# Altium integrated library TI_Logic_Specialty_Logic.IntLib: 2504 symbols (part 32 of 81)
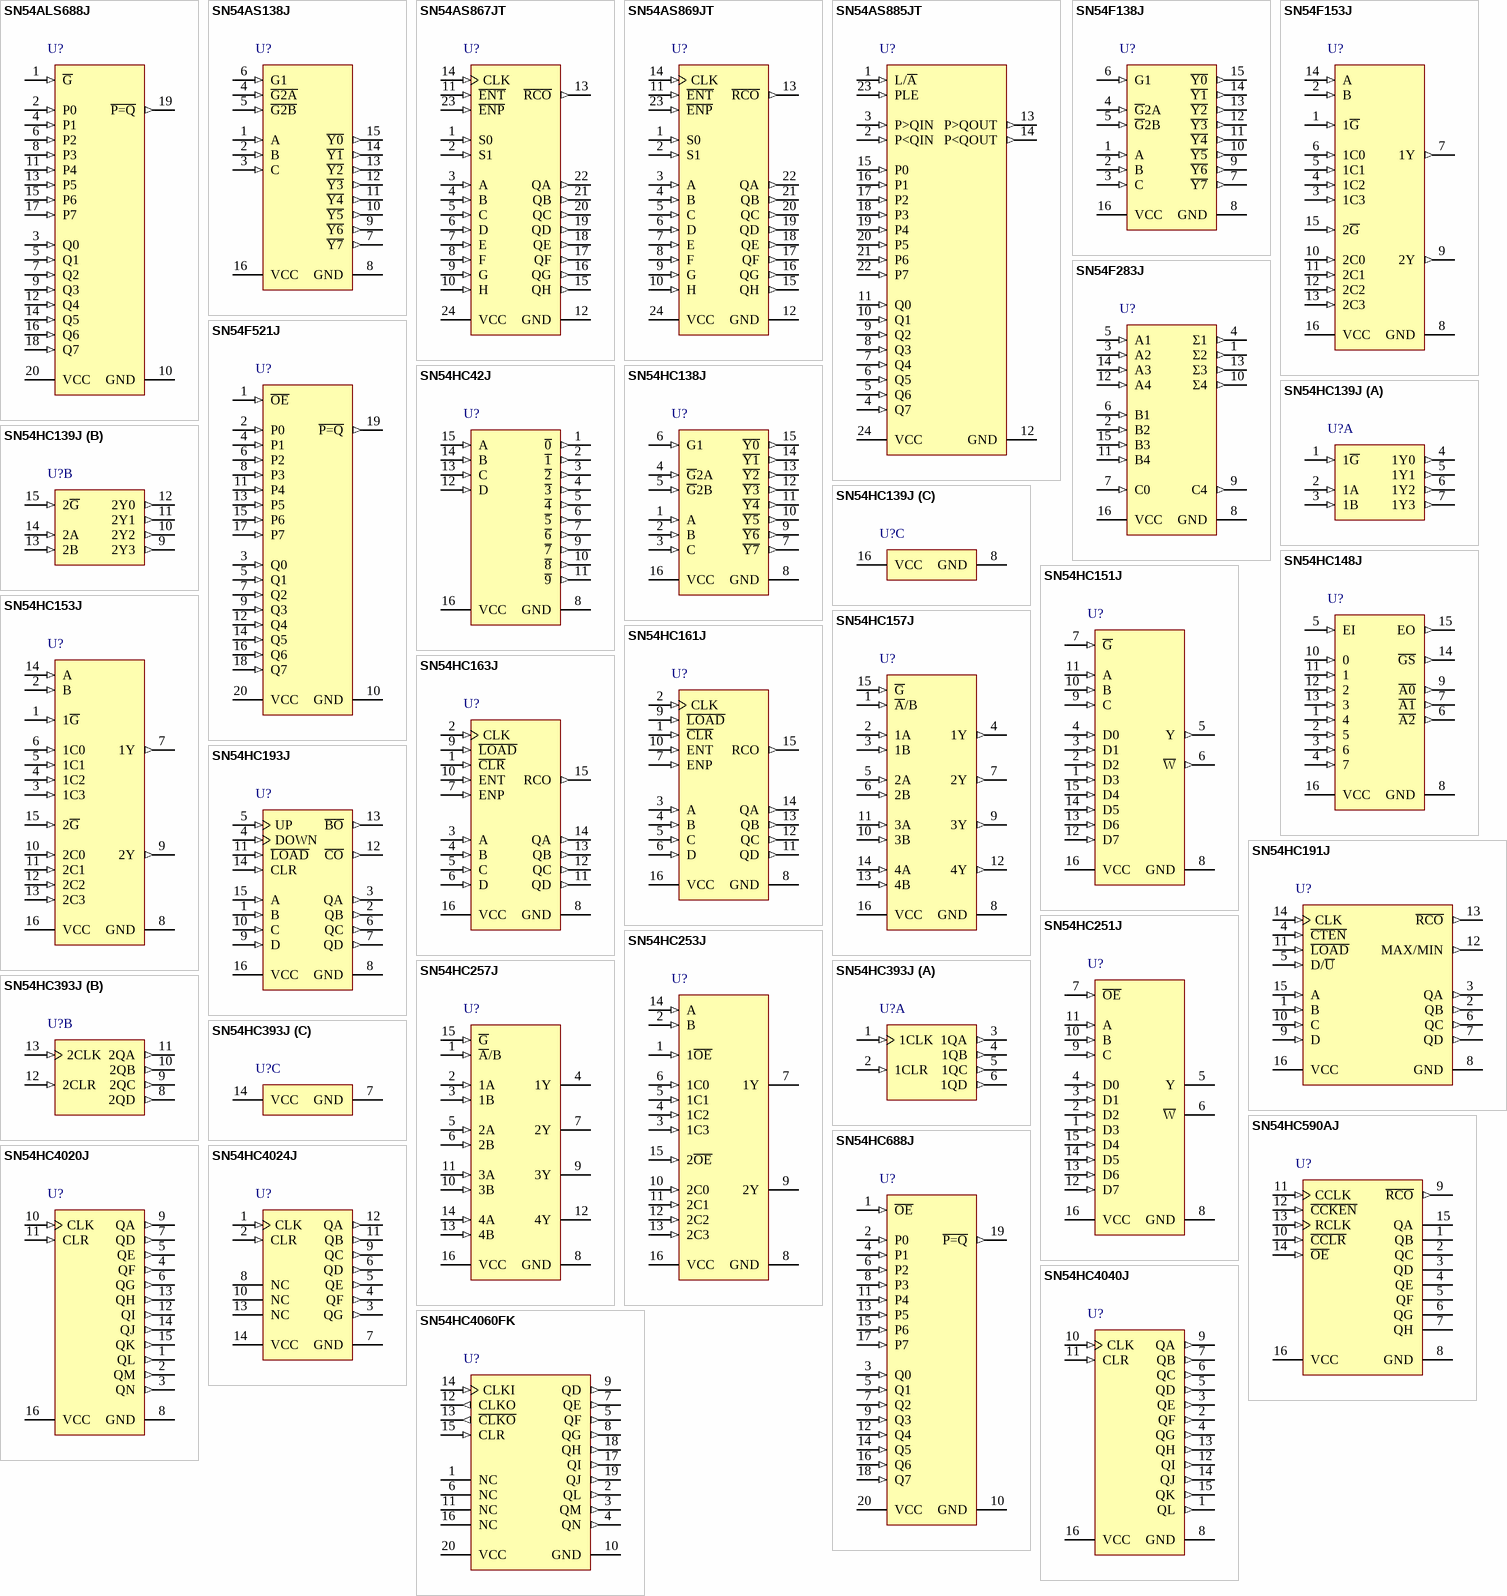
[diagram p135: symbols SN54ALS688J to SN54HC4060FK]

## SN54HC253J
designator U?
Dual 4-Line To 1-Line Data Selectors/Multiplexers With 3-State Outputs, J0016A, TUBE; Generic Part Number: SN54HC253; Manufacturer: Texas Instruments; PartNumber: SN54HC253J; VCC(Min)(V): 2; VCC(Max)(V): 6; Rating: Military; Technology Family: HC; Schmitt Trigger: No; DatasheetVersion: SCLS133E; PackageReference: J0016A; Operating Temperature Range(C): -55 to 125; ComponentLink1Description: Manufacturer URL; ComponentLink1URL: http://www.ti.com/; ComponentLink2Description: Datasheet; ComponentLink2URL: http://www.ti.com/lit/ds/symlink/sn54hc253.pdf; ComponentLink3Description: Package Specification; ComponentLink3URL: http://www.ti.com/lit/ml/mcer002d/mcer002d.pdf
footprint J0016A (DIP, 16-Leads, Body 21.35x7.2mm, Pitch 2.54mm)
pins: 1 1~{OE} (in), 2 B (in), 3 1C3 (in), 4 1C2 (in), 5 1C1 (in), 6 1C0 (in), 7 1Y (hiz), 8 GND (power), 9 2Y (hiz), 10 2C0 (in), 11 2C1 (in), 12 2C2 (in), 13 2C3 (in), 14 A (in), 15 2~{OE} (in), 16 VCC (power)

## SN54HC257J
designator U?
Quad 2-Line To 1-Line Data Selectors/Multiplexers With 3-State Outputs, J0016A, TUBE; Generic Part Number: SN54HC257; Manufacturer: Texas Instruments; PartNumber: SN54HC257J; VCC(Min)(V): 2; VCC(Max)(V): 6; Rating: Military; Technology Family: HC; Schmitt Trigger: No; DatasheetVersion: SCLS224B; PackageReference: J0016A; Operating Temperature Range(C): -55 to 125; ComponentLink1Description: Manufacturer URL; ComponentLink1URL: http://www.ti.com/; ComponentLink2Description: Datasheet; ComponentLink2URL: http://www.ti.com/lit/ds/symlink/sn54hc257.pdf; ComponentLink3Description: Package Specification; ComponentLink3URL: http://www.ti.com/lit/ml/mcer002d/mcer002d.pdf
footprint J0016A (DIP, 16-Leads, Body 21.35x7.2mm, Pitch 2.54mm)
pins: 1 ~{A}/B (in), 2 1A (in), 3 1B (in), 4 1Y (hiz), 5 2A (in), 6 2B (in), 7 2Y (hiz), 8 GND (power), 9 3Y (hiz), 10 3B (in), 11 3A (in), 12 4Y (hiz), 13 4B (in), 14 4A (in), 15 ~{G} (in), 16 VCC (power)

## SN54HC393J
designator U?
Dual 4-Bit Binary Counters, J0014A, TUBE; Generic Part Number: SN54HC393; Manufacturer: Texas Instruments; PartNumber: SN54HC393J; VCC(Min)(V): 2; VCC(Max)(V): 6; Inputs: 1; ICC @ Nom Voltage(Max)(mA): 0.08; Bits(#): 4; F @ Nom Voltage(Max)(Mhz): 28; Rating: Military; Technology Family: HC; Output Drive (IOL/IOH)(Max)(mA): 5.2/-5.2; tpd @ Nom Voltage(Max)(ns): 62; DatasheetVersion: SCLS143D; PackageReference: J0014A; Function: Counter; Operating Temperature Range(C): -55 to 125; Type: Binary; ComponentLink1Description: Manufacturer URL; ComponentLink1URL: http://www.ti.com/; ComponentLink2Description: Datasheet; ComponentLink2URL: http://www.ti.com/lit/ds/symlink/sn54hc393.pdf; ComponentLink3Description: Package Specification; ComponentLink3URL: http://www.ti.com/lit/ml/mcer002d/mcer002d.pdf
footprint J0014A (DIP, 14-Leads, Body 19.95x7.2mm, Pitch 2.54mm)
part A pins: 1 1CLK (in), 2 1CLR (in), 3 1QA (out), 4 1QB (out), 5 1QC (out), 6 1QD (out)
part B pins: 8 2QD (out), 9 2QC (out), 10 2QB (out), 11 2QA (out), 12 2CLR (in), 13 2CLK (in)
part C pins: 7 GND (power), 14 VCC (power)

## SN54HC590AJ
designator U?
8-Bit Binary Counters With 3-State Output Registers, J0016A, TUBE; Generic Part Number: SN54HC590A; Manufacturer: Texas Instruments; PartNumber: SN54HC590AJ; VCC(Min)(V): 2; VCC(Max)(V): 6; Inputs: 1; ICC @ Nom Voltage(Max)(mA): 0.08; Bits(#): 8; F @ Nom Voltage(Max)(Mhz): 28; Rating: Military; Technology Family: HC; Output Drive (IOL/IOH)(Max)(mA): 7.8/-7.8; tpd @ Nom Voltage(Max)(ns): 38; DatasheetVersion: SCLS039F; PackageReference: J0016A; Function: Counter; Operating Temperature Range(C): -55 to 125; Type: Binary; ComponentLink1Description: Manufacturer URL; ComponentLink1URL: http://www.ti.com/; ComponentLink2Description: Datasheet; ComponentLink2URL: http://www.ti.com/lit/ds/symlink/sn54hc590a.pdf; ComponentLink3Description: Package Specification; ComponentLink3URL: http://www.ti.com/lit/ml/mcer002d/mcer002d.pdf
footprint J0016A (DIP, 16-Leads, Body 21.35x7.2mm, Pitch 2.54mm)
pins: 1 QB (hiz), 2 QC (hiz), 3 QD (hiz), 4 QE (hiz), 5 QF (hiz), 6 QG (hiz), 7 QH (hiz), 8 GND (power), 9 ~{RCO} (out), 10 ~{CCLR} (in), 11 CCLK (in), 12 ~{CCKEN} (in), 13 RCLK (in), 14 ~{OE} (in), 15 QA (hiz), 16 VCC (power)

## SN54HC688J
designator U?
8-Bit Identity Comparators, J0020A, TUBE; Generic Part Number: SN54HC688; Manufacturer: Texas Instruments; PartNumber: SN54HC688J; VCC(Min)(V): 2; VCC(Max)(V): 6; Output Type: CMOS; ICC @ Nom Voltage(Max)(mA): 0.08; Bits(#): 8; Rating: Military; Technology Family: HC; Output Drive (IOL/IOH)(Max)(mA): 5.2/-5.2; tpd @ Nom Voltage(Max)(ns): 45; DatasheetVersion: SCLS010D; PackageReference: J0020A; Input Type: CMOS; Operating Temperature Range(C): -55 to 125; ComponentLink1Description: Manufacturer URL; ComponentLink1URL: http://www.ti.com/; ComponentLink2Description: Datasheet; ComponentLink2URL: http://www.ti.com/lit/ds/symlink/sn54hc688.pdf
footprint J0020A (DIP, 20-Leads, Body 26.9x7.2mm, Pitch 2.54mm)
pins: 1 ~{OE} (in), 2 P0 (in), 3 Q0 (in), 4 P1 (in), 5 Q1 (in), 6 P2 (in), 7 Q2 (in), 8 P3 (in), 9 Q3 (in), 10 GND (power), 11 P4 (in), 12 Q4 (in), 13 P5 (in), 14 Q5 (in), 15 P6 (in), 16 Q6 (in), 17 P7 (in), 18 Q7 (in), 19 ~{P=Q} (out), 20 VCC (power)

## SN54HC4020J
designator U?
Asynchronous 14-Bit Binary Counters, J0016A, TUBE; Generic Part Number: SN54HC4020; Manufacturer: Texas Instruments; PartNumber: SN54HC4020J; VCC(Min)(V): 2; VCC(Max)(V): 6; Inputs: 1; ICC @ Nom Voltage(Max)(mA): 0.08; Bits(#): 14; F @ Nom Voltage(Max)(Mhz): 28; Rating: Military; Technology Family: HC; Output Drive (IOL/IOH)(Max)(mA): 5.2/-5.2; tpd @ Nom Voltage(Max)(ns): 32; DatasheetVersion: SCLS158E; PackageReference: J0016A; Function: Counter; Operating Temperature Range(C): -55 to 125; Type: Binary; ComponentLink1Description: Manufacturer URL; ComponentLink1URL: http://www.ti.com/; ComponentLink2Description: Datasheet; ComponentLink2URL: http://www.ti.com/lit/ds/symlink/sn54hc4020.pdf; ComponentLink3Description: Package Specification; ComponentLink3URL: http://www.ti.com/lit/ml/mcer002d/mcer002d.pdf
footprint J0016A (DIP, 16-Leads, Body 21.35x7.2mm, Pitch 2.54mm)
pins: 1 QL (out), 2 QM (out), 3 QN (out), 4 QF (out), 5 QE (out), 6 QG (out), 7 QD (out), 8 GND (power), 9 QA (out), 10 CLK (in), 11 CLR (in), 12 QI (out), 13 QH (out), 14 QJ (out), 15 QK (out), 16 VCC (power)

## SN54HC4024J
designator U?
Asynchronous 7-Bit Binary Counters, J0014A, TUBE; Generic Part Number: SN54HC4024; Manufacturer: Texas Instruments; PartNumber: SN54HC4024J; Rating: Military; Technology Family: HC; DatasheetVersion: SCLS159; PackageReference: J0014A; Operating Temperature Range(C): -55 to 125; ComponentLink1Description: Manufacturer URL; ComponentLink1URL: http://www.ti.com/; ComponentLink2Description: Datasheet; ComponentLink2URL: http://www.ti.com/lit/ds/symlink/sn54hc4024.pdf; ComponentLink3Description: Package Specification; ComponentLink3URL: http://www.ti.com/lit/ml/mcer002d/mcer002d.pdf
footprint J0014A (DIP, 14-Leads, Body 19.95x7.2mm, Pitch 2.54mm)
pins: 1 CLK (in), 2 CLR (in), 3 QG (out), 4 QF (out), 5 QE (out), 6 QD (out), 7 GND (power), 8 NC, 9 QC (out), 10 NC, 11 QB (out), 12 QA (out), 13 NC, 14 VCC (power)

## SN54HC4040J
designator U?
Asynchronous 12-Bit Binary Counters, J0016A, TUBE; Generic Part Number: SN54HC4040; Manufacturer: Texas Instruments; PartNumber: SN54HC4040J; VCC(Min)(V): 2; VCC(Max)(V): 6; Inputs: 1; ICC @ Nom Voltage(Max)(mA): 0.08; Bits(#): 12; F @ Nom Voltage(Max)(Mhz): 28; Rating: Military; Technology Family: HC; Output Drive (IOL/IOH)(Max)(mA): 5.2/-5.2; tpd @ Nom Voltage(Max)(ns): 32; DatasheetVersion: SCLS160D; PackageReference: J0016A; Function: Counter; Operating Temperature Range(C): -55 to 125; Type: Binary; ComponentLink1Description: Manufacturer URL; ComponentLink1URL: http://www.ti.com/; ComponentLink2Description: Datasheet; ComponentLink2URL: http://www.ti.com/lit/ds/symlink/sn54hc4040.pdf; ComponentLink3Description: Package Specification; ComponentLink3URL: http://www.ti.com/lit/ml/mcer002d/mcer002d.pdf
footprint J0016A (DIP, 16-Leads, Body 21.35x7.2mm, Pitch 2.54mm)
pins: 1 QL (out), 2 QF (out), 3 QE (out), 4 QG (out), 5 QD (out), 6 QC (out), 7 QB (out), 8 GND (power), 9 QA (out), 10 CLK (in), 11 CLR (in), 12 QI (out), 13 QH (out), 14 QJ (out), 15 QK (out), 16 VCC (power)

## SN54HC4060FK
designator U?
Asynchronous 14-Stage Binary Counters And Oscillators, FK0020A, TUBE; Generic Part Number: SN54HC4060; Manufacturer: Texas Instruments; PartNumber: SN54HC4060FK; VCC(Min)(V): 2; VCC(Max)(V): 6; Inputs: 1; ICC @ Nom Voltage(Max)(mA): 0.08; Bits(#): 14; F @ Nom Voltage(Max)(Mhz): 28; Rating: Military; Technology Family: HC; Output Drive (IOL/IOH)(Max)(mA): 5.2/-5.2; tpd @ Nom Voltage(Max)(ns): 105; DatasheetVersion: SCLS161D; PackageReference: FK0020A; Function: Counter; Operating Temperature Range(C): -55 to 125; Type: Binary; Code_JEDEC: MS-004; ComponentLink1Description: Manufacturer URL; ComponentLink1URL: http://www.ti.com/; ComponentLink2Description: Datasheet; ComponentLink2URL: http://www.ti.com/lit/ds/symlink/sn54hc4060.pdf; ComponentLink3Description: Package Specification; ComponentLink3URL: http://www.ti.com/lit/ml/mlcc006d/mlcc006d.pdf
footprint FK0020A_N (LCC, 20-Leads, Body 8.9x8.9mm, Pitch 1.27mm, IPC Medium Density)
footprint FK0020A_M (LCC, 20-Leads, Body 8.9x8.9mm, Pitch 1.27mm, IPC Low Density)
footprint FK0020A_L (LCC, 20-Leads, Body 8.9x8.9mm, Pitch 1.27mm, IPC High Density)
pins: 1 NC, 2 QL (out), 3 QM (out), 4 QN (out), 5 QF (out), 6 NC, 7 QE (out), 8 QG (out), 9 QD (out), 10 GND (power), 11 NC, 12 CLKO (out), 13 ~{CLKO} (out), 14 CLKI (in), 15 CLR (in), 16 NC, 17 QI (out), 18 QH (out), 19 QJ (out), 20 VCC (power)

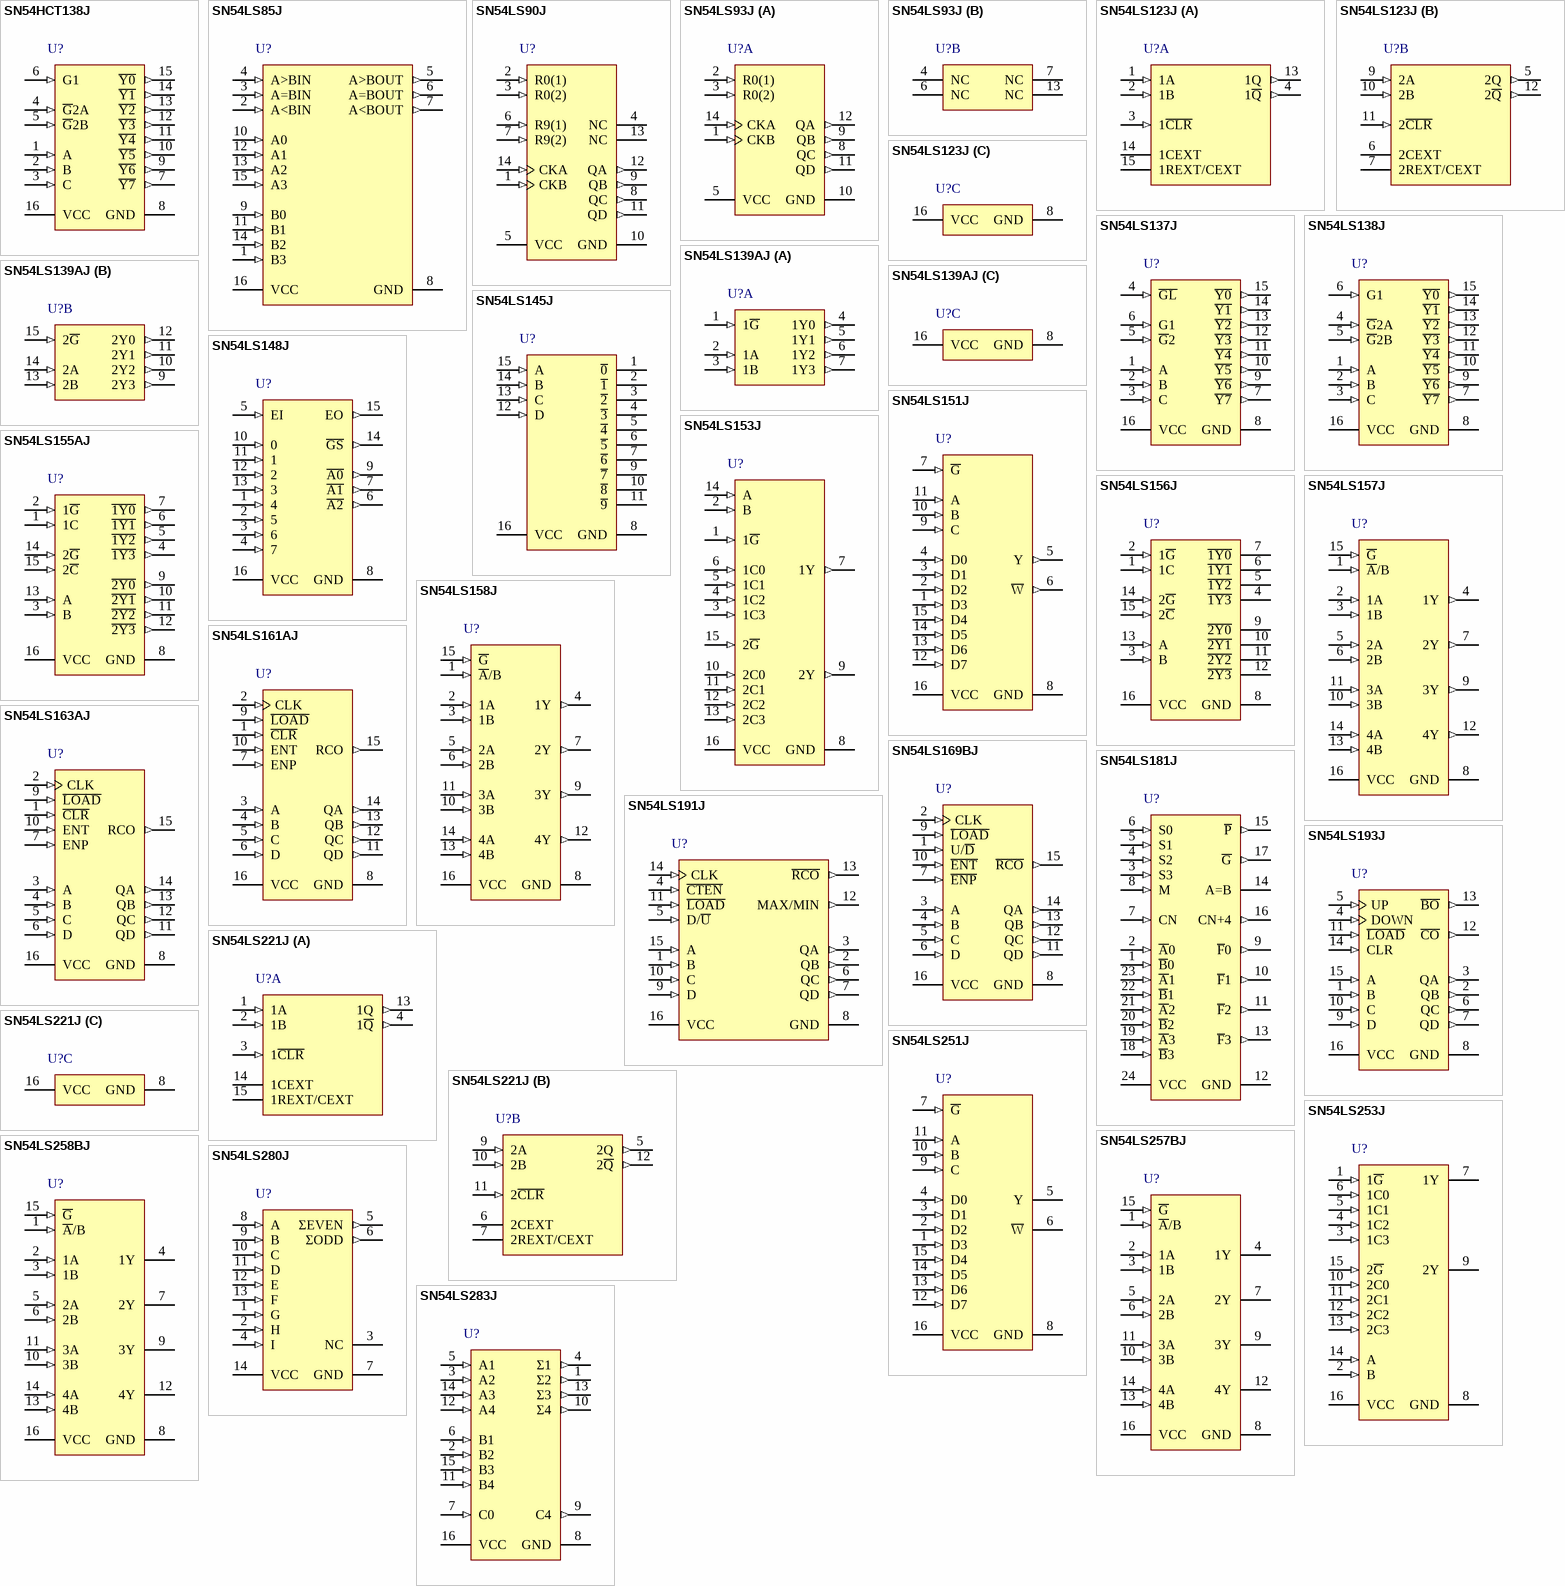
[diagram p44: symbols SN54HCT138J to SN54LS283J]

## SN54HCT138J
designator U?
3-Line To 8-Line Decoders/Demultiplexers, J0016A, TUBE; Generic Part Number: SN54HCT138; Manufacturer: Texas Instruments; PartNumber: SN54HCT138J; VCC(Min)(V): 4.5; VCC(Max)(V): 5.5; Rating: Military; Technology Family: HCT; Schmitt Trigger: No; DatasheetVersion: SCLS171E; PackageReference: J0016A; Operating Temperature Range(C): -55 to 125; ComponentLink1Description: Manufacturer URL; ComponentLink1URL: http://www.ti.com/; ComponentLink2Description: Datasheet; ComponentLink2URL: http://www.ti.com/lit/ds/symlink/sn54hct138.pdf; ComponentLink3Description: Package Specification; ComponentLink3URL: http://www.ti.com/lit/ml/mcer002d/mcer002d.pdf
footprint J0016A (DIP, 16-Leads, Body 21.35x7.2mm, Pitch 2.54mm)
pins: 1 A (in), 2 B (in), 3 C (in), 4 ~{G}2A (in), 5 ~{G}2B (in), 6 G1 (in), 7 ~{Y7} (out), 8 GND (power), 9 ~{Y6} (out), 10 ~{Y5} (out), 11 ~{Y4} (out), 12 ~{Y3} (out), 13 ~{Y2} (out), 14 ~{Y1} (out), 15 ~{Y0} (out), 16 VCC (power)

## SN54LS85J
designator U?
4-Bit Magnitude Comparators, J0016A, TUBE; Generic Part Number: SN54LS85; Manufacturer: Texas Instruments; PartNumber: SN54LS85J; VCC(Min)(V): 4.75; VCC(Max)(V): 5.25; Output Type: TTL; ICC @ Nom Voltage(Max)(mA): 88; Bits(#): 4; Rating: Military; Technology Family: LS; Output Drive (IOL/IOH)(Max)(mA): 16/-0.4; tpd @ Nom Voltage(Max)(ns): 35; DatasheetVersion: SDLS123; PackageReference: J0016A; Input Type: TTL; Operating Temperature Range(C): -55 to 125; ComponentLink1Description: Manufacturer URL; ComponentLink1URL: http://www.ti.com/; ComponentLink2Description: Datasheet; ComponentLink2URL: http://www.ti.com/lit/ds/symlink/sn54ls85.pdf
footprint J0016A (DIP, 16-Leads, Body 21.35x7.2mm, Pitch 2.54mm)
pins: 1 B3 (in), 2 A<BIN (in), 3 A=BIN (in), 4 A>BIN (in), 5 A>BOUT (out), 6 A=BOUT (out), 7 A<BOUT (out), 8 GND (power), 9 B0 (in), 10 A0 (in), 11 B1 (in), 12 A1 (in), 13 A2 (in), 14 B2 (in), 15 A3 (in), 16 VCC (power)

## SN54LS90J
designator U?
Decade Counter, J0014A, TUBE; Generic Part Number: SN54LS90; Manufacturer: Texas Instruments; PartNumber: SN54LS90J; VCC(Min)(V): 4.75; VCC(Max)(V): 5.25; Inputs: 1; ICC @ Nom Voltage(Max)(mA): 15; Bits(#): 4; F @ Nom Voltage(Max)(Mhz): 35; Rating: Military; Technology Family: LS; Output Drive (IOL/IOH)(Max)(mA): 8/-0.4; tpd @ Nom Voltage(Max)(ns): 50; DatasheetVersion: SDLS940A; PackageReference: J0014A; Function: Counter; Operating Temperature Range(C): -55 to 125; Type: Decade; ComponentLink1Description: Manufacturer URL; ComponentLink1URL: http://www.ti.com/; ComponentLink2Description: Datasheet; ComponentLink2URL: http://www.ti.com/lit/ds/symlink/sn54ls90.pdf; ComponentLink3Description: Package Specification; ComponentLink3URL: http://www.ti.com/lit/ml/mcer002d/mcer002d.pdf
footprint J0014A (DIP, 14-Leads, Body 19.95x7.2mm, Pitch 2.54mm)
pins: 1 CKB (in), 2 R0(1) (in), 3 R0(2) (in), 4 NC, 5 VCC (power), 6 R9(1) (in), 7 R9(2) (in), 8 QC (out), 9 QB (out), 10 GND (power), 11 QD (out), 12 QA (out), 13 NC, 14 CKA (in)

## SN54LS93J
designator U?
4-Bit Binary Counter, J0014A, TUBE; Generic Part Number: SN54LS93; Manufacturer: Texas Instruments; PartNumber: SN54LS93J; VCC(Min)(V): 4.75; VCC(Max)(V): 5.25; Inputs: 1; ICC @ Nom Voltage(Max)(mA): 15; Bits(#): 4; F @ Nom Voltage(Max)(Mhz): 35; Rating: Military; Technology Family: LS; Output Drive (IOL/IOH)(Max)(mA): 8/-0.4; tpd @ Nom Voltage(Max)(ns): 70; DatasheetVersion: SDLS940A; PackageReference: J0014A; Function: Counter; Operating Temperature Range(C): -55 to 125; Type: Binary; ComponentLink1Description: Manufacturer URL; ComponentLink1URL: http://www.ti.com/; ComponentLink2Description: Datasheet; ComponentLink2URL: http://www.ti.com/lit/ds/symlink/sn54ls93.pdf; ComponentLink3Description: Package Specification; ComponentLink3URL: http://www.ti.com/lit/ml/mcer002d/mcer002d.pdf
footprint J0014A (DIP, 14-Leads, Body 19.95x7.2mm, Pitch 2.54mm)
part A pins: 1 CKB (in), 2 R0(1) (in), 3 R0(2) (in), 5 VCC (power), 8 QC (out), 9 QB (out), 10 GND (power), 11 QD (out), 12 QA (out), 14 CKA (in)
part B pins: 4 NC, 6 NC, 7 NC, 13 NC

## SN54LS123J
designator U?
Retriggerable Monostable Multivibrators, J0016A, TUBE; Generic Part Number: SN54LS123; Manufacturer: Texas Instruments; PartNumber: SN54LS123J; VCC(Min)(V): 4.75; VCC(Max)(V): 5.25; Output Type: TTL; ICC @ Nom Voltage(Max)(mA): 20; Bits(#): 2; Rating: Military; Technology Family: LS; Output Drive (IOL/IOH)(Max)(mA): 8/-0.4; tpd @ Nom Voltage(Max)(ns): 56; DatasheetVersion: SDLS043; PackageReference: J0016A; Input Type: TTL; Operating Temperature Range(C): -55 to 125; ComponentLink1Description: Manufacturer URL; ComponentLink1URL: http://www.ti.com/; ComponentLink2Description: Datasheet; ComponentLink2URL: http://www.ti.com/lit/ds/symlink/sn54ls123.pdf; ComponentLink3Description: Package Specification; ComponentLink3URL: http://www.ti.com/lit/ml/mcer002d/mcer002d.pdf
footprint J0016A (DIP, 16-Leads, Body 21.35x7.2mm, Pitch 2.54mm)
part A pins: 1 1A (in), 2 1B (in), 3 1~{CLR} (in), 4 1~{Q} (out), 13 1Q (out), 14 1CEXT, 15 1REXT/CEXT
part B pins: 5 2Q (out), 6 2CEXT, 7 2REXT/CEXT, 9 2A (in), 10 2B (in), 11 2~{CLR} (in), 12 2~{Q} (out)
part C pins: 8 GND (power), 16 VCC (power)

## SN54LS137J
designator U?
3-Line To 8-Line Decoders/Demultiplexers With Address Latches, J0016A, TUBE; Generic Part Number: SN54LS137; Manufacturer: Texas Instruments; PartNumber: SN54LS137J; VCC(Min)(V): 4.5; VCC(Max)(V): 5.5; Rating: Military; Technology Family: LS; Schmitt Trigger: No; DatasheetVersion: SDLS132; PackageReference: J0016A; Operating Temperature Range(C): -55 to 125; ComponentLink1Description: Manufacturer URL; ComponentLink1URL: http://www.ti.com/; ComponentLink2Description: Datasheet; ComponentLink2URL: http://www.ti.com/lit/ds/symlink/sn54ls137.pdf; ComponentLink3Description: Package Specification; ComponentLink3URL: http://www.ti.com/lit/ml/mcer002d/mcer002d.pdf
footprint J0016A (DIP, 16-Leads, Body 21.35x7.2mm, Pitch 2.54mm)
pins: 1 A (in), 2 B (in), 3 C (in), 4 ~{GL} (in), 5 ~{G}2 (in), 6 G1 (in), 7 ~{Y7} (out), 8 GND (power), 9 ~{Y6} (out), 10 ~{Y5} (out), 11 ~{Y4} (out), 12 ~{Y3} (out), 13 ~{Y2} (out), 14 ~{Y1} (out), 15 ~{Y0} (out), 16 VCC (power)

## SN54LS138J
designator U?
3-Line To 8-Line Decoders/Demultiplexers, J0016A, TUBE; Generic Part Number: SN54LS138; Manufacturer: Texas Instruments; PartNumber: SN54LS138J; VCC(Min)(V): 4.5; VCC(Max)(V): 5.5; Rating: Military; Technology Family: LS; Schmitt Trigger: No; DatasheetVersion: SDLS014; PackageReference: J0016A; Operating Temperature Range(C): -55 to 125; ComponentLink1Description: Manufacturer URL; ComponentLink1URL: http://www.ti.com/; ComponentLink2Description: Datasheet; ComponentLink2URL: http://www.ti.com/lit/ds/symlink/sn54ls138.pdf; ComponentLink3Description: Package Specification; ComponentLink3URL: http://www.ti.com/lit/ml/mcer002d/mcer002d.pdf
footprint J0016A (DIP, 16-Leads, Body 21.35x7.2mm, Pitch 2.54mm)
pins: 1 A (in), 2 B (in), 3 C (in), 4 ~{G}2A (in), 5 ~{G}2B (in), 6 G1 (in), 7 ~{Y7} (out), 8 GND (power), 9 ~{Y6} (out), 10 ~{Y5} (out), 11 ~{Y4} (out), 12 ~{Y3} (out), 13 ~{Y2} (out), 14 ~{Y1} (out), 15 ~{Y0} (out), 16 VCC (power)

## SN54LS139AJ
designator U?
Dual 2-Line To 4-Line Decoders/Demultiplexers, J0016A, TUBE; Generic Part Number: SN54LS139A; Manufacturer: Texas Instruments; PartNumber: SN54LS139AJ; VCC(Min)(V): 4.5; VCC(Max)(V): 5.5; Rating: Military; Technology Family: LS; Schmitt Trigger: No; DatasheetVersion: SDLS013A; PackageReference: J0016A; Operating Temperature Range(C): -55 to 125; ComponentLink1Description: Manufacturer URL; ComponentLink1URL: http://www.ti.com/; ComponentLink2Description: Datasheet; ComponentLink2URL: http://www.ti.com/lit/ds/symlink/sn54ls139a.pdf; ComponentLink3Description: Package Specification; ComponentLink3URL: http://www.ti.com/lit/ml/mcer002d/mcer002d.pdf
footprint J0016A (DIP, 16-Leads, Body 21.35x7.2mm, Pitch 2.54mm)
part A pins: 1 1~{G} (in), 2 1A (in), 3 1B (in), 4 1Y0 (out), 5 1Y1 (out), 6 1Y2 (out), 7 1Y3 (out)
part B pins: 9 2Y3 (out), 10 2Y2 (out), 11 2Y1 (out), 12 2Y0 (out), 13 2B (in), 14 2A (in), 15 2~{G} (in)
part C pins: 8 GND (power), 16 VCC (power)

## SN54LS145J
designator U?
BCD-to-Decimal Decoders/Drivers, J0016A, TUBE; Generic Part Number: SN54LS145; Manufacturer: Texas Instruments; PartNumber: SN54LS145J; VCC(Min)(V): 4.5; VCC(Max)(V): 5.5; Rating: Military; Technology Family: LS; Schmitt Trigger: No; DatasheetVersion: SDLS051; PackageReference: J0016A; Operating Temperature Range(C): -55 to 125; ComponentLink1Description: Manufacturer URL; ComponentLink1URL: http://www.ti.com/; ComponentLink2Description: Datasheet; ComponentLink2URL: http://www.ti.com/lit/ds/symlink/sn54ls145.pdf; ComponentLink3Description: Package Specification; ComponentLink3URL: http://www.ti.com/lit/ml/mcer002d/mcer002d.pdf
footprint J0016A (DIP, 16-Leads, Body 21.35x7.2mm, Pitch 2.54mm)
pins: 1 ~{0} (oc), 2 ~{1} (oc), 3 ~{2} (oc), 4 ~{3} (oc), 5 ~{4} (oc), 6 ~{5} (oc), 7 ~{6} (oc), 8 GND (power), 9 ~{7} (oc), 10 ~{8} (oc), 11 ~{9} (oc), 12 D (in), 13 C (in), 14 B (in), 15 A (in), 16 VCC (power)

## SN54LS148J
designator U?
10-Line To 4-Line And 8-Line To 3-Line Priority Encoders, J0016A, TUBE; Generic Part Number: SN54LS148; Manufacturer: Texas Instruments; PartNumber: SN54LS148J; VCC(Min)(V): 4.5; VCC(Max)(V): 5.5; Rating: Military; Technology Family: LS; Schmitt Trigger: No; DatasheetVersion: SDLS053B; PackageReference: J0016A; Operating Temperature Range(C): -55 to 125; ComponentLink1Description: Manufacturer URL; ComponentLink1URL: http://www.ti.com/; ComponentLink2Description: Datasheet; ComponentLink2URL: http://www.ti.com/lit/ds/symlink/sn54ls148.pdf; ComponentLink3Description: Package Specification; ComponentLink3URL: http://www.ti.com/lit/ml/mcer002d/mcer002d.pdf
footprint J0016A (DIP, 16-Leads, Body 21.35x7.2mm, Pitch 2.54mm)
pins: 1 4 (in), 2 5 (in), 3 6 (in), 4 7 (in), 5 EI (in), 6 ~{A2} (out), 7 ~{A1} (out), 8 GND (power), 9 ~{A0} (out), 10 0 (in), 11 1 (in), 12 2 (in), 13 3 (in), 14 ~{GS} (out), 15 EO (out), 16 VCC (power)

## SN54LS151J
designator U?
Data Selectors/Multiplexers, J0016A, TUBE; Generic Part Number: SN54LS151; Manufacturer: Texas Instruments; PartNumber: SN54LS151J; VCC(Min)(V): 4.5; VCC(Max)(V): 5.5; Rating: Military; Technology Family: LS; Schmitt Trigger: No; DatasheetVersion: SDLS054; PackageReference: J0016A; Operating Temperature Range(C): -55 to 125; ComponentLink1Description: Manufacturer URL; ComponentLink1URL: http://www.ti.com/; ComponentLink2Description: Datasheet; ComponentLink2URL: http://www.ti.com/lit/ds/symlink/sn54ls151.pdf; ComponentLink3Description: Package Specification; ComponentLink3URL: http://www.ti.com/lit/ml/mcer002d/mcer002d.pdf
footprint J0016A (DIP, 16-Leads, Body 21.35x7.2mm, Pitch 2.54mm)
pins: 1 D3 (in), 2 D2 (in), 3 D1 (in), 4 D0 (in), 5 Y (out), 6 ~{W} (out), 7 ~{G} (in), 8 GND (power), 9 C (in), 10 B (in), 11 A (in), 12 D7 (in), 13 D6 (in), 14 D5 (in), 15 D4 (in), 16 VCC (power)

## SN54LS153J
designator U?
Dual 4-Line To 1-Line Data Selectors/Multiplexers, J0016A, TUBE; Generic Part Number: SN54LS153; Manufacturer: Texas Instruments; PartNumber: SN54LS153J; VCC(Min)(V): 4.5; VCC(Max)(V): 5.5; Rating: Military; Technology Family: LS; Schmitt Trigger: No; DatasheetVersion: SDLS055A; PackageReference: J0016A; Operating Temperature Range(C): -55 to 125; ComponentLink1Description: Manufacturer URL; ComponentLink1URL: http://www.ti.com/; ComponentLink2Description: Datasheet; ComponentLink2URL: http://www.ti.com/lit/ds/symlink/sn54ls153.pdf; ComponentLink3Description: Package Specification; ComponentLink3URL: http://www.ti.com/lit/ml/mcer002d/mcer002d.pdf
footprint J0016A (DIP, 16-Leads, Body 21.35x7.2mm, Pitch 2.54mm)
pins: 1 1~{G} (in), 2 B (in), 3 1C3 (in), 4 1C2 (in), 5 1C1 (in), 6 1C0 (in), 7 1Y (out), 8 GND (power), 9 2Y (out), 10 2C0 (in), 11 2C1 (in), 12 2C2 (in), 13 2C3 (in), 14 A (in), 15 2~{G} (in), 16 VCC (power)

## SN54LS155AJ
designator U?
Dual 2-Line To 4-Line Decoders/Demultiplexers, J0016A, TUBE; Generic Part Number: SN54LS155A; Manufacturer: Texas Instruments; PartNumber: SN54LS155AJ; VCC(Min)(V): 4.5; VCC(Max)(V): 5.5; Rating: Military; Technology Family: LS; Schmitt Trigger: No; DatasheetVersion: SDLS057; PackageReference: J0016A; Operating Temperature Range(C): -55 to 125; ComponentLink1Description: Manufacturer URL; ComponentLink1URL: http://www.ti.com/; ComponentLink2Description: Datasheet; ComponentLink2URL: http://www.ti.com/lit/ds/symlink/sn54ls155a.pdf; ComponentLink3Description: Package Specification; ComponentLink3URL: http://www.ti.com/lit/ml/mcer002d/mcer002d.pdf
footprint J0016A (DIP, 16-Leads, Body 21.35x7.2mm, Pitch 2.54mm)
pins: 1 1C (in), 2 1~{G} (in), 3 B (in), 4 ~{1Y3} (out), 5 ~{1Y2} (out), 6 ~{1Y1} (out), 7 ~{1Y0} (out), 8 GND (power), 9 ~{2Y0} (out), 10 ~{2Y1} (out), 11 ~{2Y2} (out), 12 ~{2Y3} (out), 13 A (in), 14 2~{G} (in), 15 2~{C} (in), 16 VCC (power)

## SN54LS156J
designator U?
Dual 2-Line To 4-Line Decoders/Demultiplexers, J0016A, TUBE; Generic Part Number: SN54LS156; Manufacturer: Texas Instruments; PartNumber: SN54LS156J; VCC(Min)(V): 4.5; VCC(Max)(V): 5.5; Rating: Military; Technology Family: LS; Schmitt Trigger: No; DatasheetVersion: SDLS057; PackageReference: J0016A; Operating Temperature Range(C): -55 to 125; ComponentLink1Description: Manufacturer URL; ComponentLink1URL: http://www.ti.com/; ComponentLink2Description: Datasheet; ComponentLink2URL: http://www.ti.com/lit/ds/symlink/sn54ls156.pdf; ComponentLink3Description: Package Specification; ComponentLink3URL: http://www.ti.com/lit/ml/mcer002d/mcer002d.pdf
footprint J0016A (DIP, 16-Leads, Body 21.35x7.2mm, Pitch 2.54mm)
pins: 1 1C (in), 2 1~{G} (in), 3 B (in), 4 ~{1Y3} (oc), 5 ~{1Y2} (oc), 6 ~{1Y1} (oc), 7 ~{1Y0} (oc), 8 GND (power), 9 ~{2Y0} (oc), 10 ~{2Y1} (oc), 11 ~{2Y2} (oc), 12 ~{2Y3} (oc), 13 A (in), 14 2~{G} (in), 15 2~{C} (in), 16 VCC (power)

## SN54LS157J
designator U?
Quadruple 2-Line To 1-Line Data Selectors/Multiplexers, J0016A, TUBE; Generic Part Number: SN54LS157; Manufacturer: Texas Instruments; PartNumber: SN54LS157J; VCC(Min)(V): 4.5; VCC(Max)(V): 5.5; Rating: Military; Technology Family: LS; Schmitt Trigger: No; DatasheetVersion: SDLS058; PackageReference: J0016A; Operating Temperature Range(C): -55 to 125; ComponentLink1Description: Manufacturer URL; ComponentLink1URL: http://www.ti.com/; ComponentLink2Description: Datasheet; ComponentLink2URL: http://www.ti.com/lit/ds/symlink/sn54ls157.pdf; ComponentLink3Description: Package Specification; ComponentLink3URL: http://www.ti.com/lit/ml/mcer002d/mcer002d.pdf
footprint J0016A (DIP, 16-Leads, Body 21.35x7.2mm, Pitch 2.54mm)
pins: 1 ~{A}/B (in), 2 1A (in), 3 1B (in), 4 1Y (out), 5 2A (in), 6 2B (in), 7 2Y (out), 8 GND (power), 9 3Y (out), 10 3B (in), 11 3A (in), 12 4Y (out), 13 4B (in), 14 4A (in), 15 ~{G} (in), 16 VCC (power)

## SN54LS158J
designator U?
Quadruple 2-Line To 1-Line Data Selectors/Multiplexers, J0016A, TUBE; Generic Part Number: SN54LS158; Manufacturer: Texas Instruments; PartNumber: SN54LS158J; VCC(Min)(V): 4.5; VCC(Max)(V): 5.5; Rating: Military; Technology Family: LS; Schmitt Trigger: No; DatasheetVersion: SDLS058; PackageReference: J0016A; Operating Temperature Range(C): -55 to 125; ComponentLink1Description: Manufacturer URL; ComponentLink1URL: http://www.ti.com/; ComponentLink2Description: Datasheet; ComponentLink2URL: http://www.ti.com/lit/ds/symlink/sn54ls158.pdf; ComponentLink3Description: Package Specification; ComponentLink3URL: http://www.ti.com/lit/ml/mcer002d/mcer002d.pdf
footprint J0016A (DIP, 16-Leads, Body 21.35x7.2mm, Pitch 2.54mm)
pins: 1 ~{A}/B (in), 2 1A (in), 3 1B (in), 4 1Y (out), 5 2A (in), 6 2B (in), 7 2Y (out), 8 GND (power), 9 3Y (out), 10 3B (in), 11 3A (in), 12 4Y (out), 13 4B (in), 14 4A (in), 15 ~{G} (in), 16 VCC (power)

## SN54LS161AJ
designator U?
Synchronous 4-Bit Counters, J0016A, TUBE; Generic Part Number: SN54LS161A; Manufacturer: Texas Instruments; PartNumber: SN54LS161AJ; VCC(Min)(V): 4.75; VCC(Max)(V): 5.25; Inputs: 1; ICC @ Nom Voltage(Max)(mA): 32; Bits(#): 4; F @ Nom Voltage(Max)(Mhz): 35; Rating: Military; Technology Family: LS; Output Drive (IOL/IOH)(Max)(mA): 8/-0.4; DatasheetVersion: SDLS060; PackageReference: J0016A; Function: Counter; Operating Temperature Range(C): -55 to 125; Type: Binary; tpd @ Nom Voltage(Max)(ns): 35; ComponentLink1Description: Manufacturer URL; ComponentLink1URL: http://www.ti.com/; ComponentLink2Description: Datasheet; ComponentLink2URL: http://www.ti.com/lit/ds/symlink/sn54ls161a.pdf; ComponentLink3Description: Package Specification; ComponentLink3URL: http://www.ti.com/lit/ml/mcer002d/mcer002d.pdf
footprint J0016A (DIP, 16-Leads, Body 21.35x7.2mm, Pitch 2.54mm)
pins: 1 ~{CLR} (in), 2 CLK (in), 3 A (in), 4 B (in), 5 C (in), 6 D (in), 7 ENP (in), 8 GND (power), 9 ~{LOAD} (in), 10 ENT (in), 11 QD (out), 12 QC (out), 13 QB (out), 14 QA (out), 15 RCO (out), 16 VCC (power)

## SN54LS163AJ
designator U?
Synchronous 4-Bit Counters, J0016A, TUBE; Generic Part Number: SN54LS163A; Manufacturer: Texas Instruments; PartNumber: SN54LS163AJ; VCC(Min)(V): 4.75; VCC(Max)(V): 5.25; Inputs: 1; ICC @ Nom Voltage(Max)(mA): 32; Bits(#): 4; F @ Nom Voltage(Max)(Mhz): 35; Rating: Military; Technology Family: LS; Output Drive (IOL/IOH)(Max)(mA): 8/-0.4; DatasheetVersion: SDLS060; PackageReference: J0016A; Function: Counter; Operating Temperature Range(C): -55 to 125; Type: Binary; tpd @ Nom Voltage(Max)(ns): 35; ComponentLink1Description: Manufacturer URL; ComponentLink1URL: http://www.ti.com/; ComponentLink2Description: Datasheet; ComponentLink2URL: http://www.ti.com/lit/ds/symlink/sn54ls163a.pdf; ComponentLink3Description: Package Specification; ComponentLink3URL: http://www.ti.com/lit/ml/mcer002d/mcer002d.pdf
footprint J0016A (DIP, 16-Leads, Body 21.35x7.2mm, Pitch 2.54mm)
pins: 1 ~{CLR} (in), 2 CLK (in), 3 A (in), 4 B (in), 5 C (in), 6 D (in), 7 ENP (in), 8 GND (power), 9 ~{LOAD} (in), 10 ENT (in), 11 QD (out), 12 QC (out), 13 QB (out), 14 QA (out), 15 RCO (out), 16 VCC (power)

## SN54LS169BJ
designator U?
Synchronous 4-Bit Up/Down Binary Counters, J0016A, TUBE; Generic Part Number: SN54LS169B; Manufacturer: Texas Instruments; PartNumber: SN54LS169BJ; VCC(Min)(V): 4.75; VCC(Max)(V): 5.25; Inputs: 1; ICC @ Nom Voltage(Max)(mA): 45; Bits(#): 4; F @ Nom Voltage(Max)(Mhz): 35; Rating: Military; Technology Family: LS; Output Drive (IOL/IOH)(Max)(mA): 24/--1.2; tpd @ Nom Voltage(Max)(ns): 40; DatasheetVersion: SDLS134; PackageReference: J0016A; Function: Counter; Operating Temperature Range(C): -55 to 125; Type: Binary; ComponentLink1Description: Manufacturer URL; ComponentLink1URL: http://www.ti.com/; ComponentLink2Description: Datasheet; ComponentLink2URL: http://www.ti.com/lit/ds/symlink/sn54ls169b.pdf; ComponentLink3Description: Package Specification; ComponentLink3URL: http://www.ti.com/lit/ml/mcer002d/mcer002d.pdf
footprint J0016A (DIP, 16-Leads, Body 21.35x7.2mm, Pitch 2.54mm)
pins: 1 U/~{D} (in), 2 CLK (in), 3 A (in), 4 B (in), 5 C (in), 6 D (in), 7 ~{ENP} (in), 8 GND (power), 9 ~{LOAD} (in), 10 ~{ENT} (in), 11 QD (out), 12 QC (out), 13 QB (out), 14 QA (out), 15 ~{RCO} (out), 16 VCC (power)

## SN54LS181J
designator U?
Arithmetic Logic Units/Function Generators, J0024A, TUBE; Generic Part Number: SN54LS181; Manufacturer: Texas Instruments; PartNumber: SN54LS181J; VCC(Min)(V): 4.75; VCC(Max)(V): 5.25; Inputs: 1; ICC @ Nom Voltage(Max)(mA): 37; Bits(#): 4; F @ Nom Voltage(Max)(Mhz): 35; Rating: Military; Technology Family: LS; Output Drive (IOL/IOH)(Max)(mA): 8/-0.4; tpd @ Nom Voltage(Max)(ns): 62; DatasheetVersion: SDLS136; PackageReference: J0024A; Supplier 1: Digi-Key; Supplier Part Number 1: SN54LS181J-ND; Function: Arithmetic; Operating Temperature Range(C): -55 to 125; Type: Other; ComponentLink1Description: Manufacturer URL; ComponentLink1URL: http://www.ti.com/; ComponentLink2Description: Datasheet; ComponentLink2URL: http://www.ti.com/lit/ds/symlink/sn54ls181.pdf; ComponentLink3Description: Package Specification; ComponentLink3URL: http://www.ti.com/lit/ml/mcer002d/mcer002d.pdf
footprint J0024A (DIP, 24-Leads, Body 32.15x14.85mm, Pitch 2.54mm)
pins: 1 ~{B}0 (in), 2 ~{A}0 (in), 3 S3 (in), 4 S2 (in), 5 S1 (in), 6 S0 (in), 7 CN (in), 8 M (in), 9 ~{F}0 (out), 10 ~{F}1 (out), 11 ~{F}2 (out), 12 GND (power), 13 ~{F}3 (out), 14 A=B (oc), 15 ~{P} (out), 16 CN+4 (out), 17 ~{G} (out), 18 ~{B}3 (in), 19 ~{A}3 (in), 20 ~{B}2 (in), 21 ~{A}2 (in), 22 ~{B}1 (in), 23 ~{A}1 (in), 24 VCC (power)

## SN54LS191J
designator U?
Synchronous Up/Down Counters With Down/Up Mode Control, J0016A, TUBE; Generic Part Number: SN54LS191; Manufacturer: Texas Instruments; PartNumber: SN54LS191J; VCC(Min)(V): 4.75; VCC(Max)(V): 5.25; Inputs: 1; ICC @ Nom Voltage(Max)(mA): 105; Bits(#): 4; F @ Nom Voltage(Max)(Mhz): 35; Rating: Military; Technology Family: LS; Output Drive (IOL/IOH)(Max)(mA): 16/-0.8; tpd @ Nom Voltage(Max)(ns): 52; DatasheetVersion: SDLS072; PackageReference: J0016A; Function: Counter; Operating Temperature Range(C): -55 to 125; Type: Binary; ComponentLink1Description: Manufacturer URL; ComponentLink1URL: http://www.ti.com/; ComponentLink2Description: Datasheet; ComponentLink2URL: http://www.ti.com/lit/ds/symlink/sn54ls191.pdf; ComponentLink3Description: Package Specification; ComponentLink3URL: http://www.ti.com/lit/ml/mcer002d/mcer002d.pdf
footprint J0016A (DIP, 16-Leads, Body 21.35x7.2mm, Pitch 2.54mm)
pins: 1 B (in), 2 QB (out), 3 QA (out), 4 ~{CTEN} (in), 5 D/~{U} (in), 6 QC (out), 7 QD (out), 8 GND (power), 9 D (in), 10 C (in), 11 ~{LOAD} (in), 12 MAX/MIN (out), 13 ~{RCO} (out), 14 CLK (in), 15 A (in), 16 VCC (power)

## SN54LS193J
designator U?
Synchronous 4-Bit Up/Down Counters (Dual Clock With Clear), J0016A, TUBE; Generic Part Number: SN54LS193; Manufacturer: Texas Instruments; PartNumber: SN54LS193J; VCC(Min)(V): 4.75; VCC(Max)(V): 5.25; Inputs: 4; ICC @ Nom Voltage(Max)(mA): 34; F @ Nom Voltage(Max)(Mhz): 35; Rating: Military; Technology Family: LS; Output Drive (IOL/IOH)(Max)(mA): 8/-0.4; tpd @ Nom Voltage(Max)(ns): 47; DatasheetVersion: SDLS074; PackageReference: J0016A; Function: Counter; Bits(#): 4; Operating Temperature Range(C): -55 to 125; Type: Binary; ComponentLink1Description: Manufacturer URL; ComponentLink1URL: http://www.ti.com/; ComponentLink2Description: Datasheet; ComponentLink2URL: http://www.ti.com/lit/ds/symlink/sn54ls193.pdf; ComponentLink3Description: Package Specification; ComponentLink3URL: http://www.ti.com/lit/ml/mcer002d/mcer002d.pdf
footprint J0016A (DIP, 16-Leads, Body 21.35x7.2mm, Pitch 2.54mm)
pins: 1 B (in), 2 QB (out), 3 QA (out), 4 DOWN (in), 5 UP (in), 6 QC (out), 7 QD (out), 8 GND (power), 9 D (in), 10 C (in), 11 ~{LOAD} (in), 12 ~{CO} (out), 13 ~{BO} (out), 14 CLR (in), 15 A (in), 16 VCC (power)

## SN54LS221J
designator U?
Dual Monostable Multivibrators With Schmitt-trigger Inputs, J0016A, TUBE; Generic Part Number: SN54LS221; Manufacturer: Texas Instruments; PartNumber: SN54LS221J; VCC(Min)(V): 4.75; VCC(Max)(V): 5.25; Output Type: TTL; ICC @ Nom Voltage(Max)(mA): 27; Bits(#): 2; Rating: Military; Technology Family: LS; Output Drive (IOL/IOH)(Max)(mA): 8/-0.4; tpd @ Nom Voltage(Max)(ns): 80; DatasheetVersion: SDLS213B; PackageReference: J0016A; Input Type: TTL; Operating Temperature Range(C): -55 to 125; ComponentLink1Description: Manufacturer URL; ComponentLink1URL: http://www.ti.com/; ComponentLink2Description: Datasheet; ComponentLink2URL: http://www.ti.com/lit/ds/symlink/sn54ls221.pdf; ComponentLink3Description: Package Specification; ComponentLink3URL: http://www.ti.com/lit/ml/mcer002d/mcer002d.pdf
footprint J0016A (DIP, 16-Leads, Body 21.35x7.2mm, Pitch 2.54mm)
part A pins: 1 1A (in), 2 1B (in), 3 1~{CLR} (in), 4 1~{Q} (out), 13 1Q (out), 14 1CEXT, 15 1REXT/CEXT
part B pins: 5 2Q (out), 6 2CEXT, 7 2REXT/CEXT, 9 2A (in), 10 2B (in), 11 2~{CLR} (in), 12 2~{Q} (out)
part C pins: 8 GND (power), 16 VCC (power)

## SN54LS251J
designator U?
Data Selectors/Multiplexers With 3-State Outputs, J0016A, TUBE; Generic Part Number: SN54LS251; Manufacturer: Texas Instruments; PartNumber: SN54LS251J; VCC(Min)(V): 4.5; VCC(Max)(V): 5.5; Rating: Military; Technology Family: LS; Schmitt Trigger: No; DatasheetVersion: SDLS085; PackageReference: J0016A; Operating Temperature Range(C): -55 to 125; ComponentLink1Description: Manufacturer URL; ComponentLink1URL: http://www.ti.com/; ComponentLink2Description: Datasheet; ComponentLink2URL: http://www.ti.com/lit/ds/symlink/sn54ls251.pdf; ComponentLink3Description: Package Specification; ComponentLink3URL: http://www.ti.com/lit/ml/mcer002d/mcer002d.pdf
footprint J0016A (DIP, 16-Leads, Body 21.35x7.2mm, Pitch 2.54mm)
pins: 1 D3 (in), 2 D2 (in), 3 D1 (in), 4 D0 (in), 5 Y (hiz), 6 ~{W} (hiz), 7 ~{G} (in), 8 GND (power), 9 C (in), 10 B (in), 11 A (in), 12 D7 (in), 13 D6 (in), 14 D5 (in), 15 D4 (in), 16 VCC (power)

## SN54LS253J
designator U?
Dual 4-Line To 1-Line Data Selectors/Multiplexers With 3-State Outputs, J0016A, TUBE; Generic Part Number: SN54LS253; Manufacturer: Texas Instruments; PartNumber: SN54LS253J; VCC(Min)(V): 4.5; VCC(Max)(V): 5.5; Rating: Military; Technology Family: LS; Schmitt Trigger: No; DatasheetVersion: SDLS147; PackageReference: J0016A; Operating Temperature Range(C): -55 to 125; ComponentLink1Description: Manufacturer URL; ComponentLink1URL: http://www.ti.com/; ComponentLink2Description: Datasheet; ComponentLink2URL: http://www.ti.com/lit/ds/symlink/sn54ls253.pdf; ComponentLink3Description: Package Specification; ComponentLink3URL: http://www.ti.com/lit/ml/mcer002d/mcer002d.pdf
footprint J0016A (DIP, 16-Leads, Body 21.35x7.2mm, Pitch 2.54mm)
pins: 1 1~{G} (in), 2 B (in), 3 1C3 (in), 4 1C2 (in), 5 1C1 (in), 6 1C0 (in), 7 1Y (hiz), 8 GND (power), 9 2Y (hiz), 10 2C0 (in), 11 2C1 (in), 12 2C2 (in), 13 2C3 (in), 14 A (in), 15 2~{G} (in), 16 VCC (power)

## SN54LS257BJ
designator U?
Quadruple 2-Line To 1-Line Data Selectors/Multiplexers, J0016A, TUBE; Generic Part Number: SN54LS257B; Manufacturer: Texas Instruments; PartNumber: SN54LS257BJ; VCC(Min)(V): 4.5; VCC(Max)(V): 5.5; Rating: Military; Technology Family: LS; Schmitt Trigger: No; DatasheetVersion: SDLS148; PackageReference: J0016A; Operating Temperature Range(C): -55 to 125; ComponentLink1Description: Manufacturer URL; ComponentLink1URL: http://www.ti.com/; ComponentLink2Description: Datasheet; ComponentLink2URL: http://www.ti.com/lit/ds/symlink/sn54ls257b.pdf; ComponentLink3Description: Package Specification; ComponentLink3URL: http://www.ti.com/lit/ml/mcer002d/mcer002d.pdf
footprint J0016A (DIP, 16-Leads, Body 21.35x7.2mm, Pitch 2.54mm)
pins: 1 ~{A}/B (in), 2 1A (in), 3 1B (in), 4 1Y (hiz), 5 2A (in), 6 2B (in), 7 2Y (hiz), 8 GND (power), 9 3Y (hiz), 10 3B (in), 11 3A (in), 12 4Y (hiz), 13 4B (in), 14 4A (in), 15 ~{G} (in), 16 VCC (power)

## SN54LS258BJ
designator U?
Quadruple 2-Line To 1-Line Data Selectors/Multiplexers, J0016A, TUBE; Generic Part Number: SN54LS258B; Manufacturer: Texas Instruments; PartNumber: SN54LS258BJ; VCC(Min)(V): 4.5; VCC(Max)(V): 5.5; Rating: Military; Technology Family: LS; Schmitt Trigger: No; DatasheetVersion: SDLS148; PackageReference: J0016A; Operating Temperature Range(C): -55 to 125; ComponentLink1Description: Manufacturer URL; ComponentLink1URL: http://www.ti.com/; ComponentLink2Description: Datasheet; ComponentLink2URL: http://www.ti.com/lit/ds/symlink/sn54ls258b.pdf; ComponentLink3Description: Package Specification; ComponentLink3URL: http://www.ti.com/lit/ml/mcer002d/mcer002d.pdf
footprint J0016A (DIP, 16-Leads, Body 21.35x7.2mm, Pitch 2.54mm)
pins: 1 ~{A}/B (in), 2 1A (in), 3 1B (in), 4 1Y (hiz), 5 2A (in), 6 2B (in), 7 2Y (hiz), 8 GND (power), 9 3Y (hiz), 10 3B (in), 11 3A (in), 12 4Y (hiz), 13 4B (in), 14 4A (in), 15 ~{G} (in), 16 VCC (power)

## SN54LS280J
designator U?
9-Bit Odd/Even Parity Generators/Checkers, J0014A, TUBE; Generic Part Number: SN54LS280; Manufacturer: Texas Instruments; PartNumber: SN54LS280J; VCC(Min)(V): 4.75; VCC(Max)(V): 5.25; Inputs: 9; ICC @ Nom Voltage(Max)(mA): 27; Bits(#): 2; F @ Nom Voltage(Max)(Mhz): 35; Rating: Military; Technology Family: LS; Output Drive (IOL/IOH)(Max)(mA): 8/-0.4; tpd @ Nom Voltage(Max)(ns): 50; DatasheetVersion: SDLS152; PackageReference: J0014A; Function: Parity; Operating Temperature Range(C): -55 to 125; Type: Other; ComponentLink1Description: Manufacturer URL; ComponentLink1URL: http://www.ti.com/; ComponentLink2Description: Datasheet; ComponentLink2URL: http://www.ti.com/lit/ds/symlink/sn54ls280.pdf; ComponentLink3Description: Package Specification; ComponentLink3URL: http://www.ti.com/lit/ml/mcer002d/mcer002d.pdf
footprint J0014A (DIP, 14-Leads, Body 19.95x7.2mm, Pitch 2.54mm)
pins: 1 G (in), 2 H (in), 3 NC, 4 I (in), 5 ΣEVEN (out), 6 ΣODD (out), 7 GND (power), 8 A (in), 9 B (in), 10 C (in), 11 D (in), 12 E (in), 13 F (in), 14 VCC (power)

## SN54LS283J
designator U?
4-Bit Binary Full Adders With Fast Carry, J0016A, TUBE; Generic Part Number: SN54LS283; Manufacturer: Texas Instruments; PartNumber: SN54LS283J; VCC(Min)(V): 4.75; VCC(Max)(V): 5.25; Inputs: 9; Function: Arithmetic; ICC @ Nom Voltage(Max)(mA): 34; Bits(#): 4; F @ Nom Voltage(Max)(Mhz): 35; Rating: Military; Technology Family: LS; Output Drive (IOL/IOH)(Max)(mA): 8/-0.4; tpd @ Nom Voltage(Max)(ns): 24; DatasheetVersion: SDLS095A; PackageReference: J0016A; Operating Temperature Range(C): -55 to 125; Type: Binary; ComponentLink1Description: Manufacturer URL; ComponentLink1URL: http://www.ti.com/; ComponentLink2Description: Datasheet; ComponentLink2URL: http://www.ti.com/lit/ds/symlink/sn54ls283.pdf; ComponentLink3Description: Package Specification; ComponentLink3URL: http://www.ti.com/lit/ml/mcer002d/mcer002d.pdf
footprint J0016A (DIP, 16-Leads, Body 21.35x7.2mm, Pitch 2.54mm)
pins: 1 Σ2 (out), 2 B2 (in), 3 A2 (in), 4 Σ1 (out), 5 A1 (in), 6 B1 (in), 7 C0 (in), 8 GND (power), 9 C4 (out), 10 Σ4 (out), 11 B4 (in), 12 A4 (in), 13 Σ3 (out), 14 A3 (in), 15 B3 (in), 16 VCC (power)

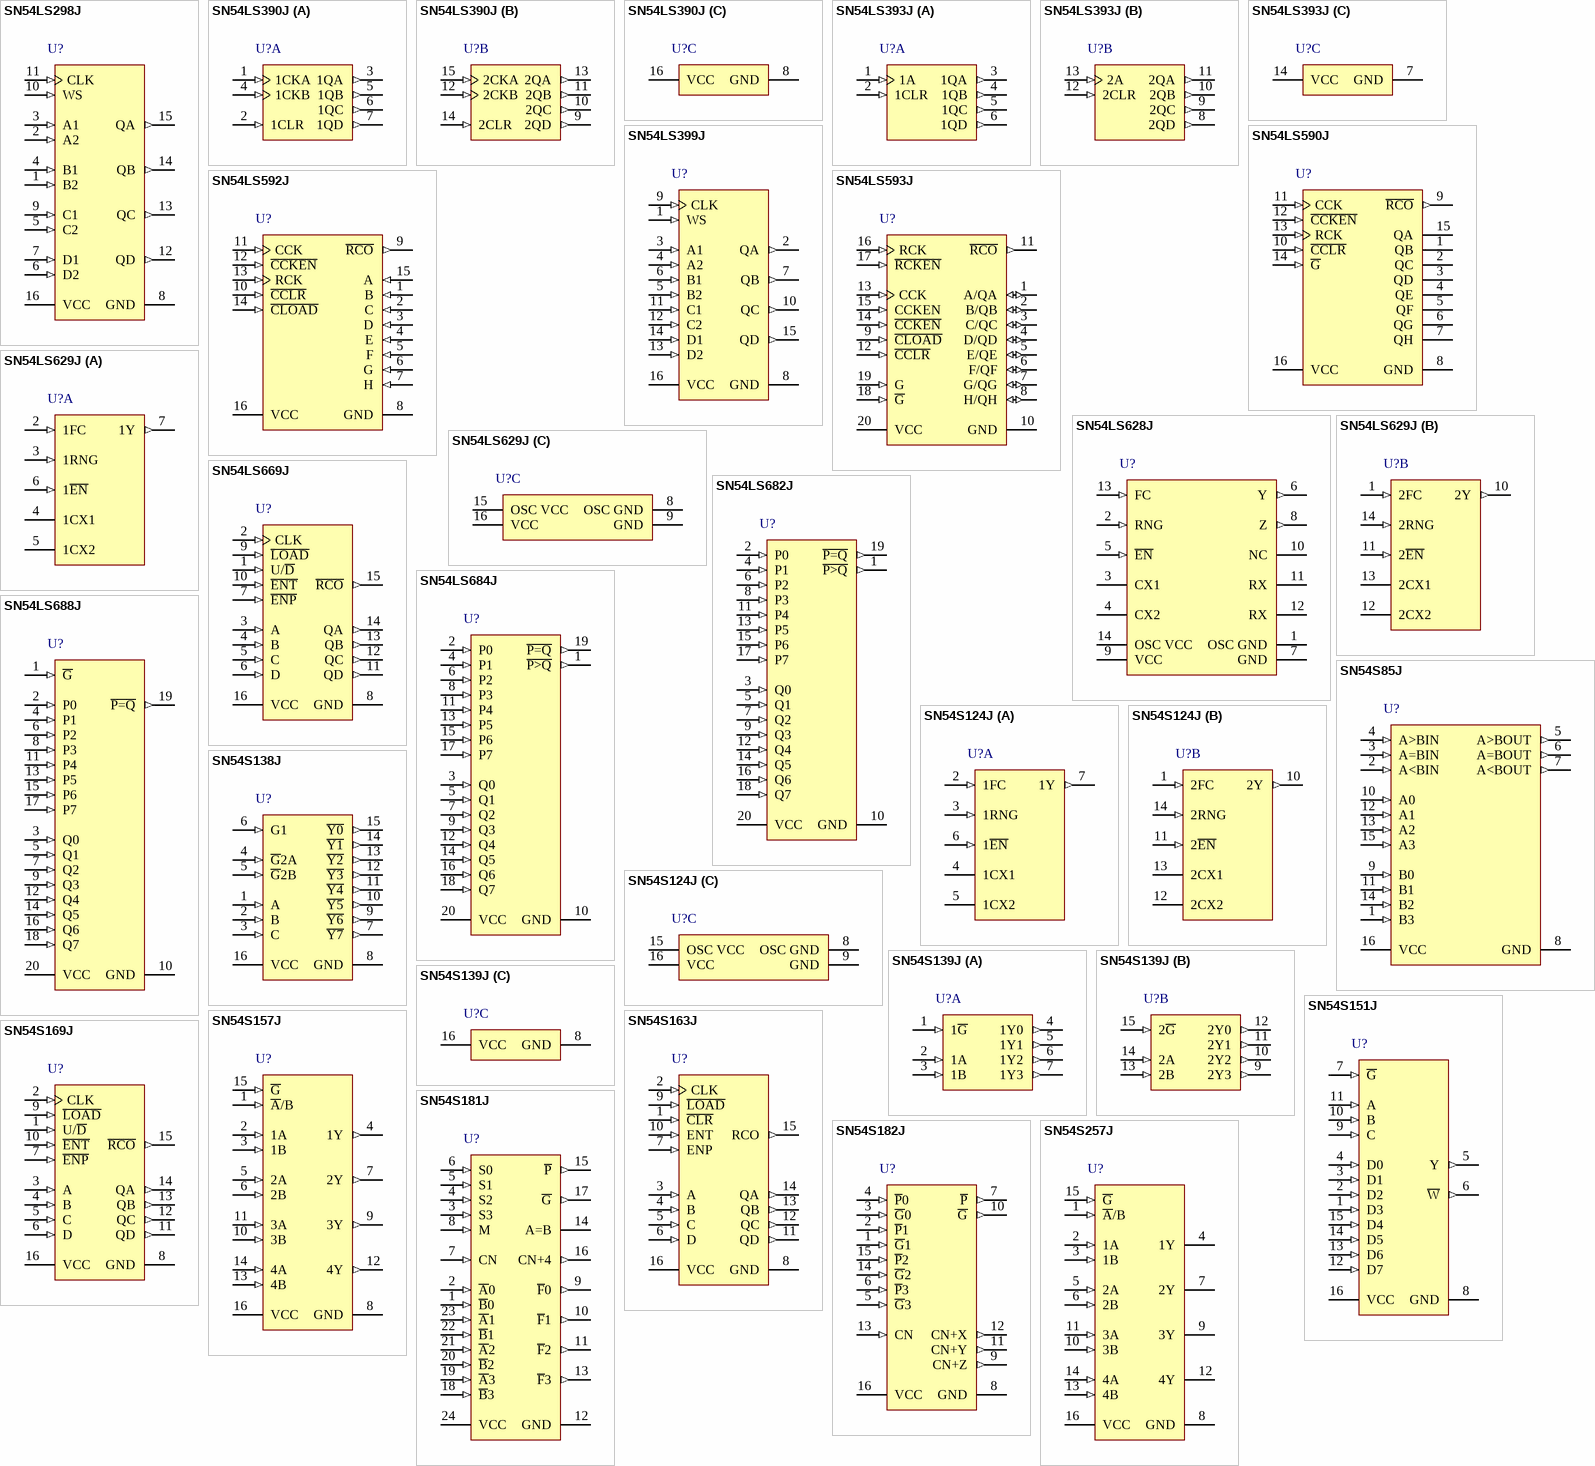
[diagram p45: symbols SN54LS298J to SN54S257J]

## SN54LS298J
designator U?
Quadruple 2-Input Multiplexers With Storage, J0016A, TUBE; Generic Part Number: SN54LS298; Manufacturer: Texas Instruments; PartNumber: SN54LS298J; VCC(Min)(V): 4.5; VCC(Max)(V): 5.5; Rating: Military; Technology Family: LS; Schmitt Trigger: No; DatasheetVersion: SDLS098; PackageReference: J0016A; Operating Temperature Range(C): -55 to 125; ComponentLink1Description: Manufacturer URL; ComponentLink1URL: http://www.ti.com/; ComponentLink2Description: Datasheet; ComponentLink2URL: http://www.ti.com/lit/ds/symlink/sn54ls298.pdf; ComponentLink3Description: Package Specification; ComponentLink3URL: http://www.ti.com/lit/ml/mcer002d/mcer002d.pdf
footprint J0016A (DIP, 16-Leads, Body 21.35x7.2mm, Pitch 2.54mm)
pins: 1 B2 (in), 2 A2 (in), 3 A1 (in), 4 B1 (in), 5 C2 (in), 6 D2 (in), 7 D1 (in), 8 GND (power), 9 C1 (in), 10 WS (in), 11 CLK (in), 12 QD (out), 13 QC (out), 14 QB (out), 15 QA (out), 16 VCC (power)

## SN54LS390J
designator U?
Dual 4-Bit Decade And Binary Counters, J0016A, TUBE; Generic Part Number: SN54LS390; Manufacturer: Texas Instruments; PartNumber: SN54LS390J; VCC(Min)(V): 4.75; VCC(Max)(V): 5.25; Inputs: 1; ICC @ Nom Voltage(Max)(mA): 26; Bits(#): 4; F @ Nom Voltage(Max)(Mhz): 35; Rating: Military; Technology Family: LS; Output Drive (IOL/IOH)(Max)(mA): 8/-0.4; tpd @ Nom Voltage(Max)(ns): 60; DatasheetVersion: SDLS107; PackageReference: J0016A; Function: Counter; Operating Temperature Range(C): -55 to 125; Type: Decade; ComponentLink1Description: Manufacturer URL; ComponentLink1URL: http://www.ti.com/; ComponentLink2Description: Datasheet; ComponentLink2URL: http://www.ti.com/lit/ds/symlink/sn54ls390.pdf; ComponentLink3Description: Package Specification; ComponentLink3URL: http://www.ti.com/lit/ml/mcer002d/mcer002d.pdf
footprint J0016A (DIP, 16-Leads, Body 21.35x7.2mm, Pitch 2.54mm)
part A pins: 1 1CKA (in), 2 1CLR (in), 3 1QA (out), 4 1CKB (in), 5 1QB (out), 6 1QC (out), 7 1QD (out)
part B pins: 9 2QD (out), 10 2QC (out), 11 2QB (out), 12 2CKB (in), 13 2QA (out), 14 2CLR (in), 15 2CKA (in)
part C pins: 8 GND (power), 16 VCC (power)

## SN54LS393J
designator U?
Dual 4-Bit Binary Counters, J0014A, TUBE; Generic Part Number: SN54LS393; Manufacturer: Texas Instruments; PartNumber: SN54LS393J; VCC(Min)(V): 4.75; VCC(Max)(V): 5.25; Inputs: 1; ICC @ Nom Voltage(Max)(mA): 26; Bits(#): 4; F @ Nom Voltage(Max)(Mhz): 35; Rating: Military; Technology Family: LS; Output Drive (IOL/IOH)(Max)(mA): 8/-0.4; tpd @ Nom Voltage(Max)(ns): 60; DatasheetVersion: SDLS107; PackageReference: J0014A; Function: Counter; Operating Temperature Range(C): -55 to 125; Type: Decade; ComponentLink1Description: Manufacturer URL; ComponentLink1URL: http://www.ti.com/; ComponentLink2Description: Datasheet; ComponentLink2URL: http://www.ti.com/lit/ds/symlink/sn54ls393.pdf; ComponentLink3Description: Package Specification; ComponentLink3URL: http://www.ti.com/lit/ml/mcer002d/mcer002d.pdf
footprint J0014A (DIP, 14-Leads, Body 19.95x7.2mm, Pitch 2.54mm)
part A pins: 1 1A (in), 2 1CLR (in), 3 1QA (out), 4 1QB (out), 5 1QC (out), 6 1QD (out)
part B pins: 8 2QD (out), 9 2QC (out), 10 2QB (out), 11 2QA (out), 12 2CLR (in), 13 2A (in)
part C pins: 7 GND (power), 14 VCC (power)

## SN54LS399J
designator U?
Quadruple 2-Input Multiplexers With Storage, J0016A, TUBE; Generic Part Number: SN54LS399; Manufacturer: Texas Instruments; PartNumber: SN54LS399J; VCC(Min)(V): 4.5; VCC(Max)(V): 5.5; Rating: Military; Technology Family: LS; Schmitt Trigger: No; DatasheetVersion: SDLS174; PackageReference: J0016A; Operating Temperature Range(C): -55 to 125; ComponentLink1Description: Manufacturer URL; ComponentLink1URL: http://www.ti.com/; ComponentLink2Description: Datasheet; ComponentLink2URL: http://www.ti.com/lit/ds/symlink/sn54ls399.pdf; ComponentLink3Description: Package Specification; ComponentLink3URL: http://www.ti.com/lit/ml/mcer002d/mcer002d.pdf
footprint J0016A (DIP, 16-Leads, Body 21.35x7.2mm, Pitch 2.54mm)
pins: 1 WS (in), 2 QA (out), 3 A1 (in), 4 A2 (in), 5 B2 (in), 6 B1 (in), 7 QB (out), 8 GND (power), 9 CLK (in), 10 QC (out), 11 C1 (in), 12 C2 (in), 13 D2 (in), 14 D1 (in), 15 QD (out), 16 VCC (power)

## SN54LS590J
designator U?
8-Bit Binary Counters With Output Registers, J0016A, TUBE; Generic Part Number: SN54LS590; Manufacturer: Texas Instruments; PartNumber: SN54LS590J; VCC(Min)(V): 4.75; VCC(Max)(V): 5.25; Inputs: 1; ICC @ Nom Voltage(Max)(mA): 65; Bits(#): 8; F @ Nom Voltage(Max)(Mhz): 35; Rating: Military; Technology Family: LS; Output Drive (IOL/IOH)(Max)(mA): 24/-2.6; tpd @ Nom Voltage(Max)(ns): 45; DatasheetVersion: SDLS003; PackageReference: J0016A; Function: Counter; Operating Temperature Range(C): -55 to 125; Type: Binary; ComponentLink1Description: Manufacturer URL; ComponentLink1URL: http://www.ti.com/; ComponentLink2Description: Datasheet; ComponentLink2URL: http://www.ti.com/lit/ds/symlink/sn54ls590.pdf; ComponentLink3Description: Package Specification; ComponentLink3URL: http://www.ti.com/lit/ml/mcer002d/mcer002d.pdf
footprint J0016A (DIP, 16-Leads, Body 21.35x7.2mm, Pitch 2.54mm)
pins: 1 QB (hiz), 2 QC (hiz), 3 QD (hiz), 4 QE (hiz), 5 QF (hiz), 6 QG (hiz), 7 QH (hiz), 8 GND (power), 9 ~{RCO} (out), 10 ~{CCLR} (in), 11 CCK (in), 12 ~{CCKEN} (in), 13 RCK (in), 14 ~{G} (in), 15 QA (hiz), 16 VCC (power)

## SN54LS592J
designator U?
8-Bit Binary Counters With Input Registers, J0016A, TUBE; Generic Part Number: SN54LS592; Manufacturer: Texas Instruments; PartNumber: SN54LS592J; VCC(Min)(V): 4.75; VCC(Max)(V): 5.25; Inputs: 1; ICC @ Nom Voltage(Max)(mA): 60; Bits(#): 8; F @ Nom Voltage(Max)(Mhz): 35; Rating: Military; Technology Family: LS; Output Drive (IOL/IOH)(Max)(mA): 24/-2.6; tpd @ Nom Voltage(Max)(ns): 53; DatasheetVersion: SDLS004; PackageReference: J0016A; Function: Counter; Operating Temperature Range(C): -55 to 125; Type: Binary; ComponentLink1Description: Manufacturer URL; ComponentLink1URL: http://www.ti.com/; ComponentLink2Description: Datasheet; ComponentLink2URL: http://www.ti.com/lit/ds/symlink/sn54ls592.pdf; ComponentLink3Description: Package Specification; ComponentLink3URL: http://www.ti.com/lit/ml/mcer002d/mcer002d.pdf
footprint J0016A (DIP, 16-Leads, Body 21.35x7.2mm, Pitch 2.54mm)
pins: 1 B (in), 2 C (in), 3 D (in), 4 E (in), 5 F (in), 6 G (in), 7 H (in), 8 GND (power), 9 ~{RCO} (out), 10 ~{CCLR} (in), 11 CCK (in), 12 ~{CCKEN} (in), 13 RCK (in), 14 ~{CLOAD} (in), 15 A (in), 16 VCC (power)

## SN54LS593J
designator U?
8-Bit Binary Counters With Input Registers, J0020A, TUBE; Generic Part Number: SN54LS593; Manufacturer: Texas Instruments; PartNumber: SN54LS593J; VCC(Min)(V): 4.75; VCC(Max)(V): 5.25; Inputs: 1; ICC @ Nom Voltage(Max)(mA): 85; Bits(#): 8; F @ Nom Voltage(Max)(Mhz): 35; Rating: Military; Technology Family: LS; Output Drive (IOL/IOH)(Max)(mA): 24/-2.6; tpd @ Nom Voltage(Max)(ns): 63; DatasheetVersion: SDLS004; PackageReference: J0020A; Function: Counter; Operating Temperature Range(C): -55 to 125; Type: Binary; ComponentLink1Description: Manufacturer URL; ComponentLink1URL: http://www.ti.com/; ComponentLink2Description: Datasheet; ComponentLink2URL: http://www.ti.com/lit/ds/symlink/sn54ls593.pdf; ComponentLink3Description: Package Specification; ComponentLink3URL: http://www.ti.com/lit/ml/mcer002d/mcer002d.pdf
footprint J0020A (DIP, 20-Leads, Body 26.9x7.2mm, Pitch 2.54mm)
pins: 1 A/QA (io), 2 B/QB (io), 3 C/QC (io), 4 D/QD (io), 5 E/QE (io), 6 F/QF (io), 7 G/QG (io), 8 H/QH (io), 9 ~{CLOAD} (in), 10 GND (power), 11 ~{RCO} (out), 12 ~{CCLR} (in), 13 CCK (in), 14 ~{CCKEN} (in), 15 CCKEN (in), 16 RCK (in), 17 ~{RCKEN} (in), 18 ~{G} (in), 19 G (in), 20 VCC (power)

## SN54LS628J
designator U?
Voltage-Controlled Oscillators, J0014A, TUBE; Generic Part Number: SN54LS628; Manufacturer: Texas Instruments; PartNumber: SN54LS628J; VCC(Min)(V): 4.75; VCC(Max)(V): 5.25; Output Type: TTL; ICC @ Nom Voltage(Max)(mA): 35; Rating: Military; Technology Family: LS; Output Drive (IOL/IOH)(Max)(mA): 24/-1.2; DatasheetVersion: SDLS186; PackageReference: J0014A; Input Type: TTL; Operating Temperature Range(C): -55 to 125; ComponentLink1Description: Manufacturer URL; ComponentLink1URL: http://www.ti.com/; ComponentLink2Description: Datasheet; ComponentLink2URL: http://www.ti.com/lit/ds/symlink/sn54ls628.pdf
footprint J0014A (DIP, 14-Leads, Body 19.95x7.2mm, Pitch 2.54mm)
pins: 1 OSC GND (power), 2 RNG (in), 3 CX1, 4 CX2, 5 ~{EN} (in), 6 Y (out), 7 GND (power), 8 Z (out), 9 VCC (power), 10 NC, 11 RX, 12 RX, 13 FC (in), 14 OSC VCC (power)

## SN54LS629J
designator U?
Voltage-Controlled Oscillators, J0016A, TUBE; Generic Part Number: SN54LS629; Manufacturer: Texas Instruments; PartNumber: SN54LS629J; VCC(Min)(V): 4.75; VCC(Max)(V): 5.25; Output Type: TTL; ICC @ Nom Voltage(Max)(mA): 55; Rating: Military; Technology Family: LS; Output Drive (IOL/IOH)(Max)(mA): 24/-1.2; DatasheetVersion: SDLS186; PackageReference: J0016A; Input Type: TTL; Operating Temperature Range(C): -55 to 125; ComponentLink1Description: Manufacturer URL; ComponentLink1URL: http://www.ti.com/; ComponentLink2Description: Datasheet; ComponentLink2URL: http://www.ti.com/lit/ds/symlink/sn54ls629.pdf
footprint J0016A (DIP, 16-Leads, Body 21.35x7.2mm, Pitch 2.54mm)
part A pins: 2 1FC (in), 3 1RNG (in), 4 1CX1, 5 1CX2, 6 1~{EN} (in), 7 1Y (out)
part B pins: 1 2FC (in), 10 2Y (out), 11 2~{EN} (in), 12 2CX2, 13 2CX1, 14 2RNG (in)
part C pins: 8 OSC GND (power), 9 GND (power), 15 OSC VCC (power), 16 VCC (power)